# Altium integrated library chips.IntLib: 17 symbols
Pins are listed as number, name and electrical type; pins without a type are passive.

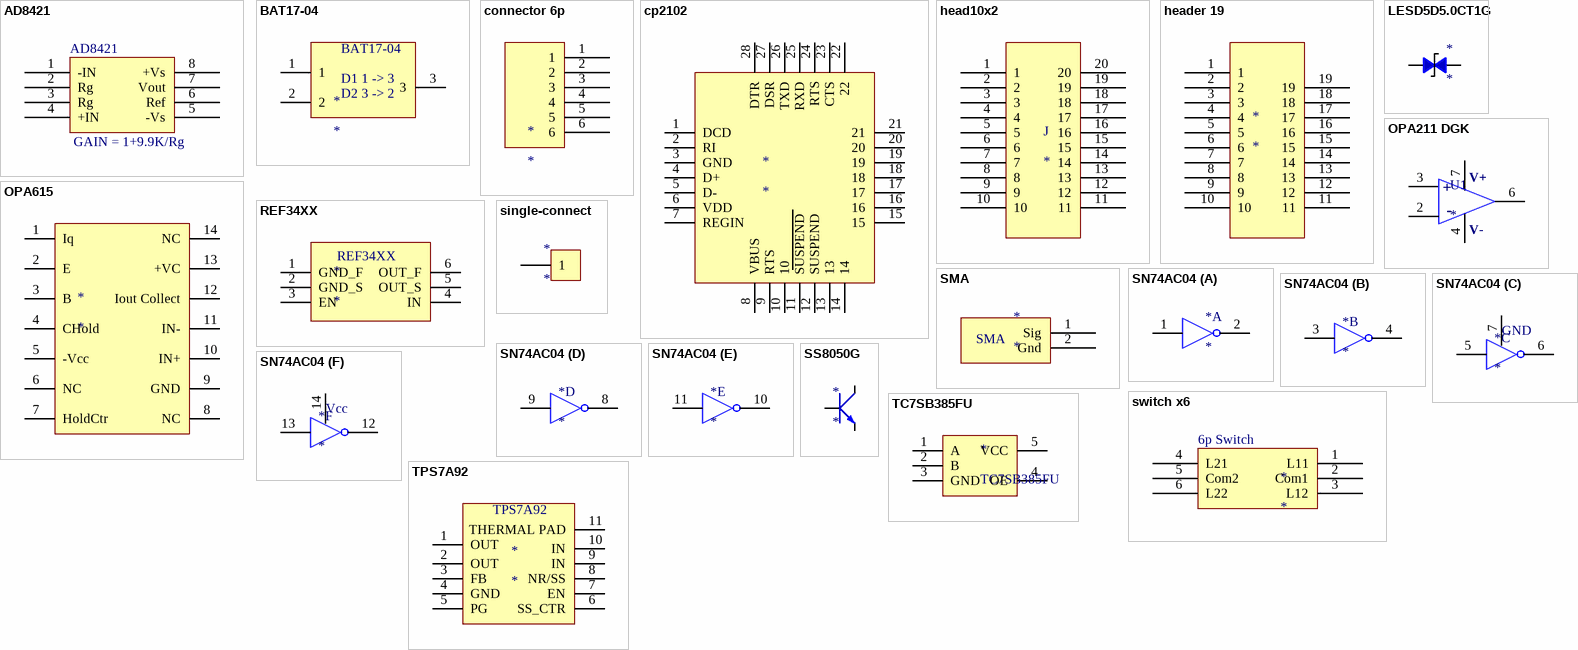
[diagram p0: symbols AD8421 to TPS7A92]

## AD8421
designator *  (value not drawn)
footprint AD8421
pins: 1 -IN, 2 Rg, 3 Rg, 4 +IN, 5 -Vs, 6 Ref, 7 Vout, 8 +Vs
text: GAIN = 1+9.9K/Rg

## BAT17-04
designator *
footprint BAT17-04
pins: 1, 2, 3
text: D1 1 -> 3; D2 3 -> 2

## connector 6p
designator *
footprint connector 6p
pins: 1, 2, 3, 4, 5, 6

## cp2102
designator *
footprint CP2102-A01-QFN28
pins: 1 DCD, 2 RI, 3 GND, 4 D+, 5 D-, 6 VDD, 7 REGIN, 8 VBUS, 9 RTS, 10, 11 SUSPEND, 12 SUSPEND, 13, 14, 15, 16, 17, 18, 19, 20, 21, 22, 23 CTS, 24 RTS, 25 RXD, 26 TXD, 27 DSR, 28 DTR

## head10x2
designator J
footprint head10x2
pins: 1, 2, 3, 4, 5, 6, 7, 8, 9, 10, 11, 12, 13, 14, 15, 16, 17, 18, 19, 20

## header 19
designator *
footprint header 19
pins: 1, 2, 3, 4, 5, 6, 7, 8, 9, 10, 11, 12, 13, 14, 15, 16, 17, 18, 19

## LESD5D5.0CT1G
designator *
footprint LESD5D5.0CT1G
pins: 1, 2

## OPA211 DGK
designator U1
footprint OPA211 DGK
pins: 2 -IN, 3 +IN, 4 V-, 6 OUT, 7 V+
text: +; -

## OPA615
designator *
footprint OPA615
pins: 1 Iq, 2 E, 3 B, 4 CHold, 5 -Vcc, 6 NC, 7 HoldCtr, 8 NC, 9 GND, 10 IN+, 11 IN-, 12 Iout Collect, 13 +VC, 14 NC

## REF34XX
designator *
footprint REF34XX
pins: 1 GND_F, 2 GND_S, 3 EN, 4 IN, 5 OUT_S, 6 OUT_F

## single-connect
designator *
footprint single-connect
pins: 1

## SMA
designator *
footprint SMA
pins: 1 Sig, 2 Gnd

## SN74AC04
designator *
footprint SN74AC04 PW(R-PSDO-G14)
part A pins: 1, 2
part B pins: 3, 4
part C pins: 5, 6, 7 GND
part D pins: 8, 9
part E pins: 10, 11
part F pins: 12, 13, 14 VCC
part F text: Vcc

## SS8050G
designator *
footprint SS8050G
pins: 1, 2, 3

## switch x6
designator *
footprint 6p Switch
pins: 1 L11, 2 Com1, 3 L12, 4 L21, 5 Com2, 6 L22
text: 6p Switch

## TC7SB385FU
designator *
footprint TC7SB385FU
pins: 1 A, 2 B, 3 GND, 4 OE, 5 VCC

## TPS7A92
designator *
footprint TPS7A92
pins: 1 OUT, 2 OUT, 3 FB, 4 GND, 5 PG, 6 SS_CTR, 7 EN, 8 NR/SS, 9 IN, 10 IN, 11 THERMAL PAD